# EAGLE library part LP38502SD-ADJ (library mbed-HDK-Power)
LDO Adjustable (2.7V-5.5Vin, 0.6V-5Vout, 1.5Aout)
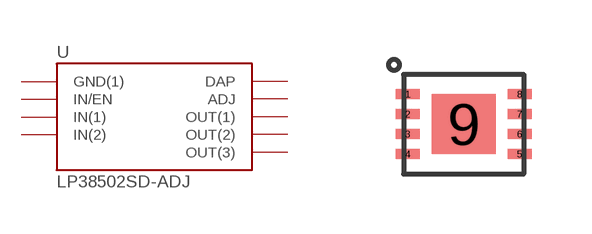
[diagram p1: symbol with the pads of WSON_3X2.5; footprint WSON_3X2.5]

Designator prefix U

## LP38502SD-ADJ (MF: TEXAS INSTRUMENTS; MFN: LP38502SD-ADJ/NOPB; OC-DIGIKEY: LP38502SD-ADJ/NOPBCT-ND; OC-MOUSER: 926-38502SD-ADJ/NOPB; OC-NEWARK: 64M7066)  [WSON_3X2.5]
1  GND(1)
2  IN/EN
3  IN(1)
4  IN(2)
5  OUT(3)
6  OUT(2)
7  OUT(1)
8  ADJ
9  DAP

## Footprint WSON_3X2.5 (pad centres in mm)
smd 0.6 x 0.25: 1 -1.397,0.752; 2 -1.397,0.252; 3 -1.397,-0.248; 4 -1.397,-0.748; 5 1.403,-0.748; 6 1.403,-0.248; 7 1.403,0.252; 8 1.403,0.752
smd 1.6 x 1.5: 9 0.003,0.002